# EAGLE library part 24PIN (library FaBo-Breakout)
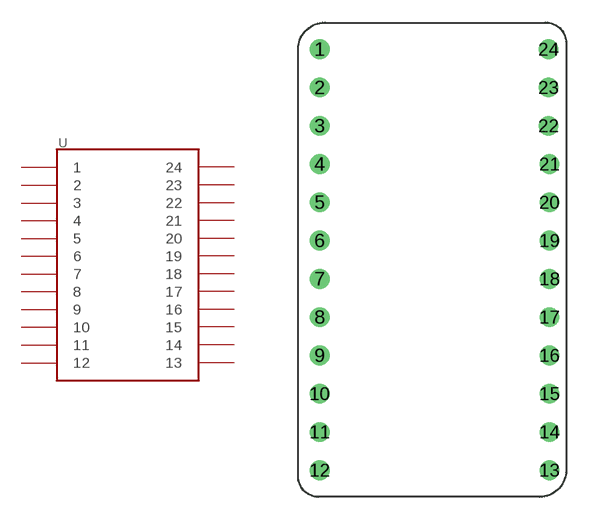
[diagram p4: symbol with the pads of 24PIN-WIDE; footprint 24PIN-WIDE]

Designator prefix -

## 24PIN  [24PIN-WIDE]
1  1
2  2
3  3
4  4
5  5
6  6
7  7
8  8
9  9
10  10
11  11
12  12
13  13
14  14
15  15
16  16
17  17
18  18
19  19
20  20
21  21
22  22
23  23
24  24

## Footprint 24PIN-WIDE (pad centres in mm)
drill 0.8: 1 -7.46,7.62; 2 -7.46,5.08; 3 -7.46,2.54; 4 -7.46,0; 5 -7.46,-2.54; 6 -7.46,-5.08; 7 -7.46,-7.62; 8 -7.46,-10.16; 9 -7.46,-12.7; 10 -7.46,-15.24; 11 -7.46,-17.78; 12 -7.46,-20.32; 13 7.78,-20.32; 14 7.78,-17.78; 15 7.78,-15.24; 16 7.78,-12.7; 17 7.78,-10.16; 18 7.78,-7.62; 19 7.78,-5.08; 20 7.78,-2.54; 21 7.78,0; 22 7.72,2.54; 23 7.72,5.08; 24 7.72,7.62